# Altium schematic symbol library MAX4295.SchLib: 1 symbol
Pins are listed as number, name and electrical type; pins without a type are passive.

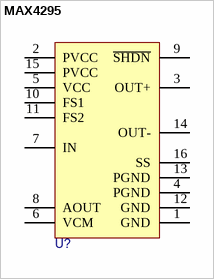
[diagram p0: symbol MAX4295]

## MAX4295
designator U?
pins: 1 GND, 2 PVCC, 3 OUT+, 4 PGND, 5 VCC, 6 VCM, 7 IN, 8 AOUT, 9 ~{SHDN}, 10 FS1, 11 FS2, 12 GND, 13 PGND, 14 OUT-, 15 PVCC, 16 SS